# Altium footprint library Pcblib_20110825.Pcblib: 408 footprints (part 21 of 26)
Each footprint in its own frame and in the unit in brackets; x right, y up, seen from the top. Pads: shape width x height; smd on the part's side, far side on the other; paste and mask are expansions set on the pad; w line width, h text height; cw(c..) or ccw(c..) is an arc to the next point about the centre after c.
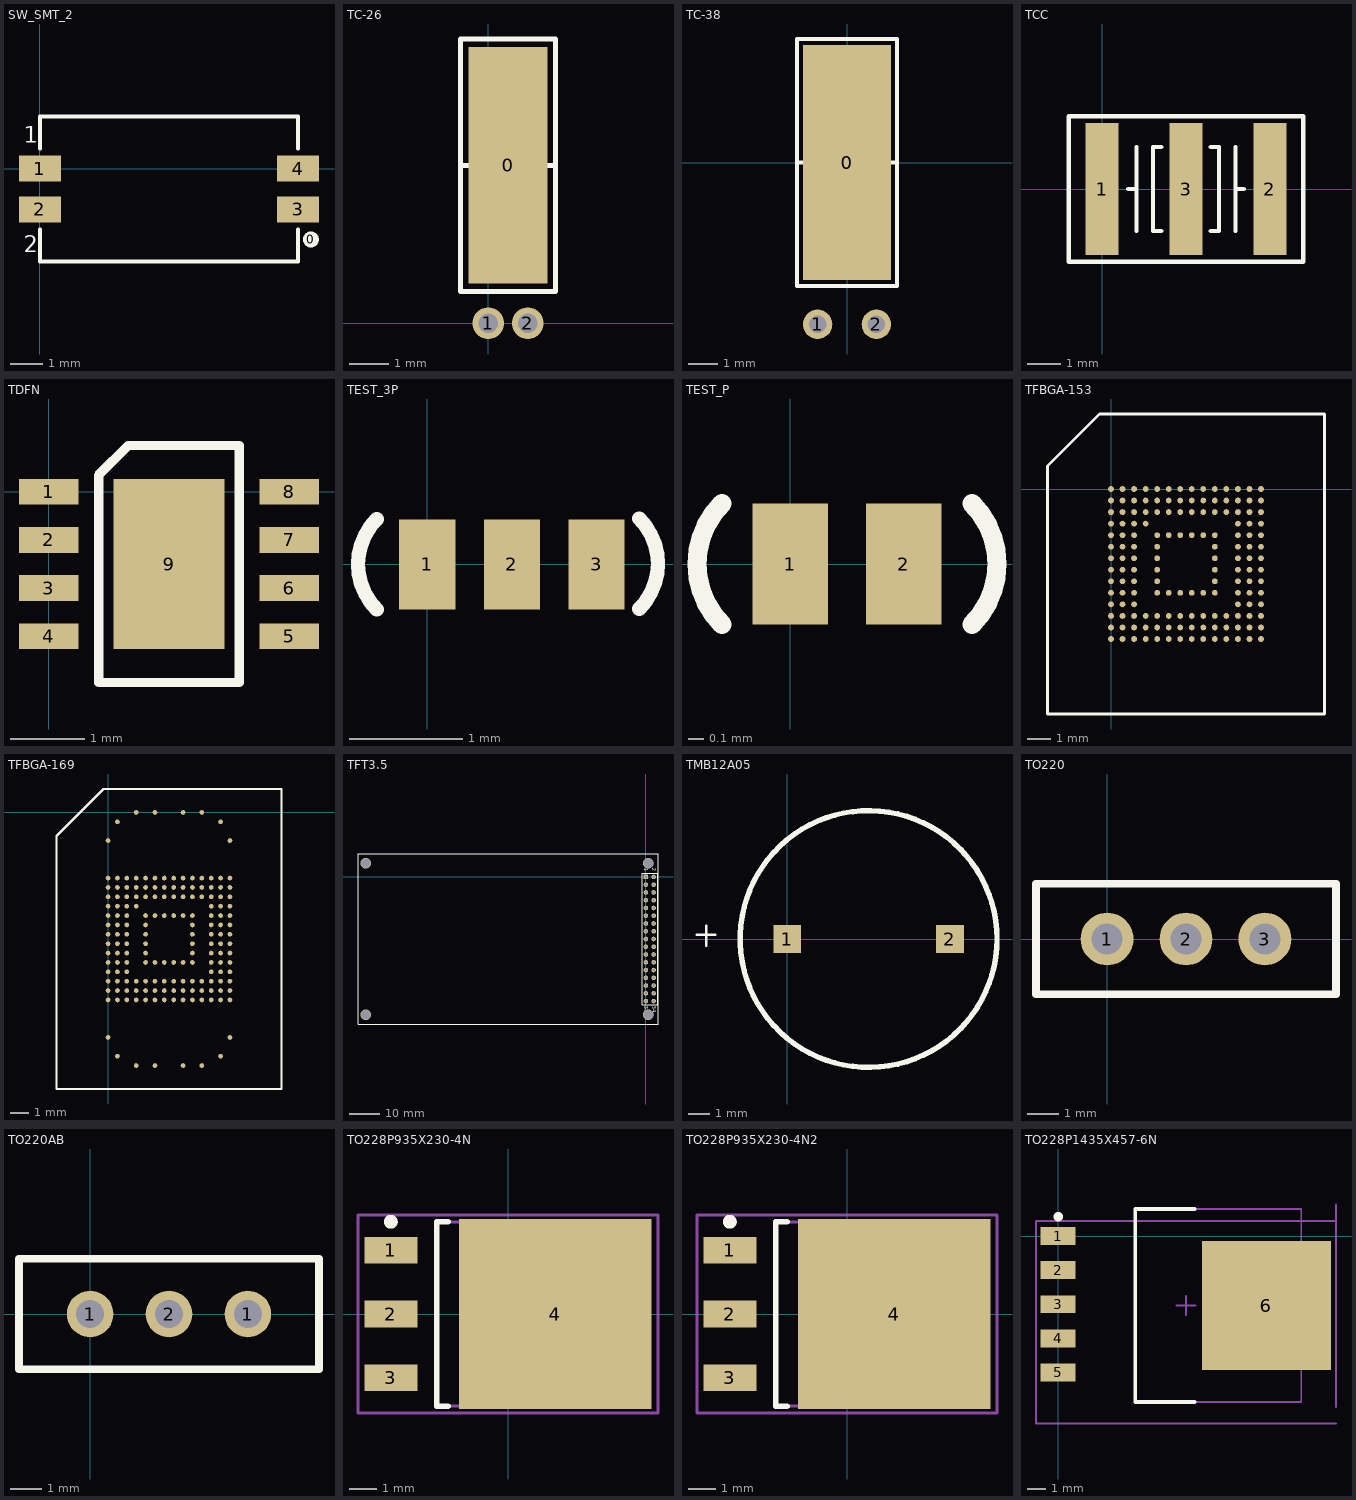
[diagram p20: the footprints below, top view; thin cyan lines are the x and y axes]

## SW_SMT_2 [mm]
pads (5):
  round 0.5 on Top Overlay: 0(8.4,-2.2)
  rect 1.3x0.8 smd: 1(0,0) 2(0,-1.27) 3(8,-1.27) 4(8,0)
TopOverlay:
  lines w0.127: 0,-1.885 0,-2.885 8,-2.885 8,-1.885 ; 0,0.615 0,1.615 8,1.615 8,0.615
  text "1" at -0.5,0.8 h0.51
  text "2" at -0.5,-2.6 h0.51

## TC-26 [mm]
pads (3):
  rect 2x6 smd: 0(0.5,4)
  round 0.8 hole 0.5: 1(0,0) 2(1,0)
TopOverlay:
  lines w0.127: -0.7,4 -0.2,4 ; -0.2,3 -0.2,5 ; 1.2,3 1.2,5 ; 1.2,4 1.7,4 ; -0.7,0.8 1.7,0.8 1.7,7.2 -0.7,7.2 -0.7,0.8 ; 0.1,3 0.1,5 0.9,5 0.9,3 0.1,3

## TC-38 [mm]
pads (3):
  rect 3x8 smd: 0(0,0)
  round 1 hole 0.6: 1(-1,-5.5) 2(1,-5.5)
TopOverlay:
  lines w0.127: -1.7,0 -0.7,0 ; -0.7,-1 -0.7,1 ; 0.7,-1 0.7,1 ; 0.7,0 1.7,0 ; -1.7,-4.2 1.7,-4.2 1.7,4.2 -1.7,4.2 -1.7,-4.2 ; -0.4,-1 -0.4,1 0.4,1 0.4,-1 -0.4,-1

## TCC [mm]
pads (3):
  rect 1x4 smd: 1(0,0) 2(5.08,0) 3(2.54,0)
TopOverlay:
  lines w0.127: 0.79,0 1.04,0 ; 1.04,-1.27 1.04,1.27 ; 1.79,-1.27 1.54,-1.27 1.54,1.27 1.79,1.27 ; 3.29,-1.27 3.54,-1.27 3.54,1.27 3.29,1.27 ; 4.04,-1.27 4.04,1.27 ; 4.04,0 4.29,0 ; -1.01,-2.2 6.09,-2.2 6.09,2.2 -1.01,2.2 -1.01,-2.2

## TDFN [mm]
pads (9):
  rect 0.8x0.35 smd: 1(0,0) 2(0,-0.65) 3(0,-1.3) 4(0,-1.95) 5(3.25,-1.95) 6(3.25,-1.3) 7(3.25,-0.65) 8(3.25,0)
  rect 1.5x2.3 smd: 9(1.625,-0.975)
TopOverlay:
  lines w0.127: 0.675,-2.575 0.675,0.225 1.075,0.625 2.575,0.625 2.575,-2.575 0.675,-2.575

## TEST_3P [mm]
pads (3):
  rect 0.5x0.8 smd: 1(0,0) 2(0.75,0) 3(1.5,0)
TopOverlay:
  lines w0.127: -0.45,-0.4 cw(c-0.05,0) -0.45,0.4 ; 1.88,-0.394 ccw(c1.48,0.006) 1.88,0.406

## TEST_P [mm]
pads (2):
  rect 0.5x0.8 smd: 1(0,0) 2(0.75,0)
TopOverlay:
  lines w0.127: -0.45,-0.4 cw(c-0.05,0) -0.45,0.4 ; 1.2,-0.4 ccw(c0.8,0) 1.2,0.4

## TFBGA-153 [mm]
pads (153):
  round 0.25 smd: A1(0,0) A2(0.5,0) A3(1,0) A4(1.5,0) A5(2,0) A6(2.5,0) A7(3,0) A8(3.5,0) A9(4,0) A10(4.5,0) A11(5,0) A12(5.5,0) A13(6,0) A14(6.5,0) B1(0,-0.5) B2(0.5,-0.5) B3(1,-0.5) B4(1.5,-0.5) B5(2,-0.5) B6(2.5,-0.5) B7(3,-0.5) B8(3.5,-0.5) B9(4,-0.5) B10(4.5,-0.5) B11(5,-0.5) B12(5.5,-0.5) B13(6,-0.5) B14(6.5,-0.5) C1(0,-1) C2(0.5,-1) C3(1,-1) C4(1.5,-1) C5(2,-1) C6(2.5,-1) C7(3,-1) C8(3.5,-1) C9(4,-1) C10(4.5,-1) C11(5,-1) C12(5.5,-1) C13(6,-1) C14(6.5,-1) D1(0,-1.5) D2(0.5,-1.5) D3(1,-1.5) D4(1.5,-1.5) D12(5.5,-1.5) D13(6,-1.5) D14(6.5,-1.5) E1(0,-2) E2(0.5,-2) E3(1,-2) E5(2,-2) E6(2.5,-2) E7(3,-2) E8(3.5,-2) E9(4,-2) E10(4.5,-2) E12(5.5,-2) E13(6,-2) E14(6.5,-2) F1(0,-2.5) F2(0.5,-2.5) F3(1,-2.5) F5(2,-2.5) F10(4.5,-2.5) F12(5.5,-2.5) F13(6,-2.5) F14(6.5,-2.5) G1(0,-3) G2(0.5,-3) G3(1,-3) G5(2,-3) G10(4.5,-3) G12(5.5,-3) G13(6,-3) G14(6.5,-3) H1(0,-3.5) H2(0.5,-3.5) H3(1,-3.5) H5(2,-3.5) H10(4.5,-3.5) H12(5.5,-3.5) H13(6,-3.5) H14(6.5,-3.5) J1(0,-4) J2(0.5,-4) J3(1,-4) J5(2,-4) J10(4.5,-4) J12(5.5,-4) J13(6,-4) J14(6.5,-4) K1(0,-4.5) K2(0.5,-4.5) K3(1,-4.5) K5(2,-4.5) K6(2.5,-4.5) K7(3,-4.5) K8(3.5,-4.5) K9(4,-4.5) K10(4.5,-4.5) K12(5.5,-4.5) K13(6,-4.5) K14(6.5,-4.5) L1(0,-5) L2(0.5,-5) L3(1,-5) L12(5.5,-5) L13(6,-5) L14(6.5,-5) M1(0,-5.5) M2(0.5,-5.5) M3(1,-5.5) M4(1.5,-5.5) M5(2,-5.5) M6(2.5,-5.5) M7(3,-5.5) M8(3.5,-5.5) M9(4,-5.5) M10(4.5,-5.5) M11(5,-5.5) M12(5.5,-5.5) M13(6,-5.5) M14(6.5,-5.5) N1(0,-6) N2(0.5,-6) N3(1,-6) N4(1.5,-6) N5(2,-6) N6(2.5,-6) N7(3,-6) N8(3.5,-6) N9(4,-6) N10(4.5,-6) N11(5,-6) N12(5.5,-6) N13(6,-6) N14(6.5,-6) P1(0,-6.5) P2(0.5,-6.5) P3(1,-6.5) P4(1.5,-6.5) P5(2,-6.5) P6(2.5,-6.5) P7(3,-6.5) P8(3.5,-6.5) P9(4,-6.5) P10(4.5,-6.5) P11(5,-6.5) P12(5.5,-6.5) P13(6,-6.5) P14(6.5,-6.5)
TopOverlay:
  lines w0.127: -2.75,-9.75 9.25,-9.75 9.25,3.25 -0.5,3.25 -2.75,1 -2.75,-9.75

## TFBGA-169 [mm]
pads (169):
  round 0.25 smd: A4(1.5,0) A6(2.5,0) A9(4,0) A11(5,0) AA1(0,-10) AA2(0.5,-10) AA3(1,-10) AA4(1.5,-10) AA5(2,-10) AA6(2.5,-10) AA7(3,-10) AA8(3.5,-10) AA9(4,-10) AA10(4.5,-10) AA11(5,-10) AA12(5.5,-10) AA13(6,-10) AA14(6.5,-10) AE1(0,-12) AE14(6.5,-12) AG2(0.5,-13) AG13(6,-13) AH4(1.5,-13.5) AH6(2.5,-13.5) AH9(4,-13.5) AH11(5,-13.5) B2(0.5,-0.5) B13(6,-0.5) D1(0,-1.5) D14(6.5,-1.5) H1(0,-3.5) H2(0.5,-3.5) H3(1,-3.5) H4(1.5,-3.5) H5(2,-3.5) H6(2.5,-3.5) H7(3,-3.5) H8(3.5,-3.5) H9(4,-3.5) H10(4.5,-3.5) H11(5,-3.5) H12(5.5,-3.5) H13(6,-3.5) H14(6.5,-3.5) J1(0,-4) J2(0.5,-4) J3(1,-4) J4(1.5,-4) J5(2,-4) J6(2.5,-4) J7(3,-4) J8(3.5,-4) J9(4,-4) J10(4.5,-4) J11(5,-4) J12(5.5,-4) J13(6,-4) J14(6.5,-4) K1(0,-4.5) K2(0.5,-4.5) K3(1,-4.5) K4(1.5,-4.5) K5(2,-4.5) K6(2.5,-4.5) K7(3,-4.5) K8(3.5,-4.5) K9(4,-4.5) K10(4.5,-4.5) K11(5,-4.5) K12(5.5,-4.5) K13(6,-4.5) K14(6.5,-4.5) L1(0,-5) L2(0.5,-5) L3(1,-5) L4(1.5,-5) L12(5.5,-5) L13(6,-5) L14(6.5,-5) M1(0,-5.5) M2(0.5,-5.5) M3(1,-5.5) M5(2,-5.5) M6(2.5,-5.5) M7(3,-5.5) M8(3.5,-5.5) M9(4,-5.5) M10(4.5,-5.5) M12(5.5,-5.5) M13(6,-5.5) M14(6.5,-5.5) N1(0,-6) N2(0.5,-6) N3(1,-6) N5(2,-6) N10(4.5,-6) N12(5.5,-6) N13(6,-6) N14(6.5,-6) P1(0,-6.5) P2(0.5,-6.5) P3(1,-6.5) P5(2,-6.5) P10(4.5,-6.5) P12(5.5,-6.5) P13(6,-6.5) P14(6.5,-6.5) R1(0,-7) R2(0.5,-7) R3(1,-7) R5(2,-7) R10(4.5,-7) R12(5.5,-7) R13(6,-7) R14(6.5,-7) T1(0,-7.5) T2(0.5,-7.5) T3(1,-7.5) T5(2,-7.5) T10(4.5,-7.5) T12(5.5,-7.5) T13(6,-7.5) T14(6.5,-7.5) U1(0,-8) U2(0.5,-8) U3(1,-8) U5(2,-8) U6(2.5,-8) U7(3,-8) U8(3.5,-8) U9(4,-8) U10(4.5,-8) U12(5.5,-8) U13(6,-8) U14(6.5,-8) V1(0,-8.5) V2(0.5,-8.5) V3(1,-8.5) V12(5.5,-8.5) V13(6,-8.5) V14(6.5,-8.5) W1(0,-9) W2(0.5,-9) W3(1,-9) W4(1.5,-9) W5(2,-9) W6(2.5,-9) W7(3,-9) W8(3.5,-9) W9(4,-9) W10(4.5,-9) W11(5,-9) W12(5.5,-9) W13(6,-9) W14(6.5,-9) Y1(0,-9.5) Y2(0.5,-9.5) Y3(1,-9.5) Y4(1.5,-9.5) Y5(2,-9.5) Y6(2.5,-9.5) Y7(3,-9.5) Y8(3.5,-9.5) Y9(4,-9.5) Y10(4.5,-9.5) Y11(5,-9.5) Y12(5.5,-9.5) Y13(6,-9.5) Y14(6.5,-9.5)
TopOverlay:
  lines w0.127: -2.75,-14.75 -2.75,-1.25 -0.25,1.25 9.25,1.25 9.25,-14.75 -2.75,-14.75

## TFT3.5 [mm]
pads (34):
  rect 1.5x1.5 hole 0.9: 1(0,0)
  round 1.5 hole 0.9: 2(2.54,0) 3(0,-2.54) 4(2.54,-2.54) 5(0,-5.08) 6(2.54,-5.08) 7(0,-7.62) 8(2.54,-7.62) 9(0,-10.16) 10(2.54,-10.16) 11(0,-12.7) 12(2.54,-12.7) 13(0,-15.24) 14(2.54,-15.24) 15(0,-17.78) 16(2.54,-17.78) 17(0,-20.32) 18(2.54,-20.32) 19(0,-22.86) 20(2.54,-22.86) 21(0,-25.4) 22(2.54,-25.4) 23(0,-27.94) 24(2.54,-27.94) 25(0,-30.48) 26(2.54,-30.48) 27(0,-33.02) 28(2.54,-33.02) 29(0,-35.56) 30(2.54,-35.56) 31(0,-38.1) 32(2.54,-38.1) 33(0,-40.64) 34(2.54,-40.64)
via 0.812,4.505 diameter 3.5 hole 3.2
via 0.812,-45.145 diameter 3.5 hole 3.2
via -91.748,4.505 diameter 3.5 hole 3.2
via -91.748,-45.145 diameter 3.5 hole 3.2
TopOverlay:
  lines w0.2: -1.27,-41.91 -1.27,1.27 3.81,1.27 3.81,-41.91 -1.27,-41.91
  lines w0.254: -78.207,-48.195 3.962,-48.195 3.962,7.555 -94.288,7.555 -94.288,-48.195 -78.167,-48.195
  text "34" at 2.032,-42.164 h1.27
  text "33" at -0.508,-42.164 h1.27
  text "1" at -0.508,3.048 h1.27
  text "2" at 2.032,3.048 h1.27

## TMB12A05 [mm]
pads (2):
  rect 1.3x1.3 smd: 1(0,0) 2(7.6,0)
TopOverlay:
  circle w0.254: c3.8,0 r6
  lines w0.127: -4.216,0.203 -3.378,0.203 ; -3.785,-0.305 -3.785,0.61

## TO220 [mm]
pads (3):
  round 1.7 hole 1: 1(0,0) 2(2.54,0) 3(5.08,0)
TopOverlay:
  lines w0.254: -2.29,-1.78 6.5,-1.78 7.37,-1.78 7.37,1.78 -2.29,1.78 -2.29,-1.78

## TO220AB [mm]
pads (3):
  round 1.5 hole 0.9: 1(0,0) 1(5.08,0) 2(2.54,0)
TopOverlay:
  lines w0.254: -2.29,-1.78 6.5,-1.78 7.37,-1.78 7.37,1.78 -2.29,1.78 -2.29,-1.78

## TO228P935X230-4N [mm] "D-PAK, 4-Pads, Body 6.1x6.6mm (max), IPC Medium Density"
height 2.3
pads (4):
  rect 1.9x0.95 smd: 1(-4.2,2.28) 2(-4.2,0) 3(-4.2,-2.28)
  rect 6.9x6.8 smd: 4(1.7,0)
TopOverlay:
  circle w0.25: c-4.2,3.305 r0.125
  lines w0.2: -2.15,-3.3 -2.55,-3.3 -2.55,3.3 -2.15,3.3
Mechanical13:
  lines w0.1: -2.55,-3.3 -2.55,3.3 3.55,3.3 3.55,-3.3 -2.55,-3.3
Mechanical15:
  lines w0.1: -0.5,0 0.5,0 ; 0,-0.5 0,0.5 ; -5.375,-3.55 -5.375,3.55 5.375,3.55 5.375,-3.55 -5.375,-3.55
3D body: height 2.3, standoff 0.5, extent -2.55,-3.3 3.55,3.3

## TO228P935X230-4N2 [mm] "D-PAK, 4-Pads, Body 6.1x6.6mm (max), IPC Medium Density"
height 2.3
pads (4):
  rect 1.9x0.95 smd: 1(-4.2,2.28) 2(-4.2,0) 3(-4.2,-2.28)
  rect 6.9x6.8 smd: 4(1.7,0)
TopOverlay:
  circle w0.25: c-4.2,3.305 r0.125
  lines w0.2: -2.15,-3.3 -2.55,-3.3 -2.55,3.3 -2.15,3.3
Mechanical13:
  lines w0.1: -2.55,-3.3 -2.55,3.3 3.55,3.3 3.55,-3.3 -2.55,-3.3
Mechanical15:
  lines w0.1: -0.5,0 0.5,0 ; 0,-0.5 0,0.5 ; -5.375,-3.55 -5.375,3.55 5.375,3.55 5.375,-3.55 -5.375,-3.55
3D body: height 2.3, standoff 0.5, extent -2.55,-3.3 3.55,3.3

## TO228P1435X457-6N [mm] "D2-PAK, 6-Pads, Body 8.6x10.2mm (max), IPC Medium Density"
height 4.57
pads (6):
  rect 1.85x0.95 smd: 1(0,0) 2(0,-1.8) 3(0,-3.6) 4(0,-5.4) 5(0,-7.2)
  rect 6.8x6.8 smd: 6(11,-3.671)
TopOverlay:
  circle w0.25: c0,1.025 r0.125
  lines w0.2: 7.2,-8.771 4.064,-8.771 4.064,1.429 7.2,1.429
Mechanical13:
  lines w0.1: 4.064,-8.771 12.84,-8.771 12.84,1.429 4.064,1.429 4.064,-8.771
Mechanical15:
  lines w0.1: 6.25,-3.671 7.25,-3.671 ; 6.75,-4.171 6.75,-3.171 ; 14.675,-9.91 -1.175,-9.91 -1.175,0.79 14.675,0.79 ; 14.675,-9.021 14.675,1.679
3D body: height 4.57, standoff 0.1, extent 4.2,-8.771 12.84,1.429